# EAGLE library part MP6530 (library tmxk)
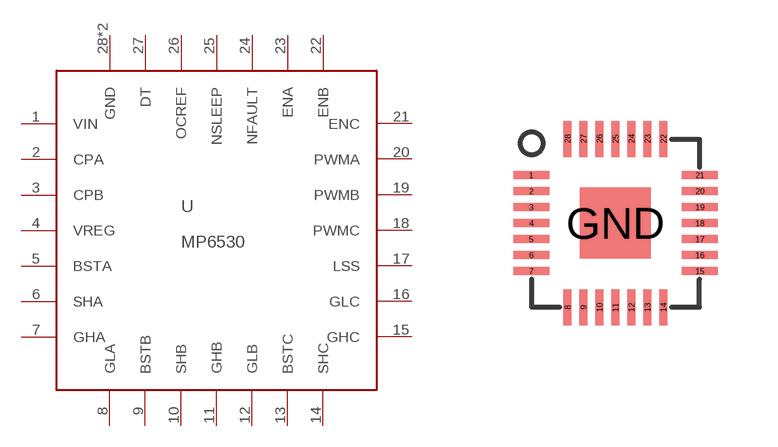
[diagram p22: symbol with the pads of QFN28; footprint QFN28]

Designator prefix U

## MP6530  [QFN28]
1  VIN
2  CPA
3  CPB
4  VREG
5  BSTA
6  SHA
7  GHA
8  GLA
9  BSTB
10  SHB
11  GHB
12  GLB
13  BSTC
14  SHC
15  GHC
16  GLC
17  LSS
18  PWMC
19  PWMB
20  PWMA
21  ENC
22  ENB
23  ENA
24  NFAULT
25  NSLEEP
26  OCREF
27  DT
28  GND
GND  GND

## Footprint QFN28 (pad centres in mm)
28-Lead Plastic Quad Flat No Lead Package (ML) 6x6 mm Body, Punch Singulated (QFN) Source: ww1.microchip.com/downloads/en/DeviceDoc/39605c.pdf
smd 0.9 x 0.2: 1 -2.11,1.2; 2 -2.11,0.8; 3 -2.11,0.4; 4 -2.11,0; 5 -2.11,-0.4; 6 -2.11,-0.8; 7 -2.11,-1.2; 15 2.11,-1.2; 16 2.11,-0.8; 17 2.11,-0.4; 18 2.11,0; 19 2.11,0.4; 20 2.11,0.8; 21 2.11,1.2
smd 0.2 x 0.9: 8 -1.2,-2.11; 9 -0.8,-2.11; 10 -0.4,-2.11; 11 0,-2.11; 12 0.4,-2.11; 13 0.8,-2.11; 14 1.2,-2.11; 22 1.2,2.11; 23 0.8,2.11; 24 0.4,2.11; 25 0,2.11; 26 -0.4,2.11; 27 -0.8,2.11; 28 -1.2,2.11
smd 1.778 x 1.778: GND 0,0